# Altium schematic symbol library ABXS005S4X341-SRZ.SchLib: 1 symbol
Pins are listed as number, name and electrical type; pins without a type are passive.

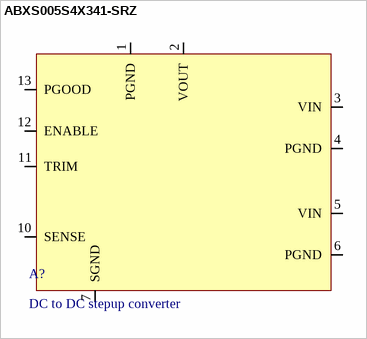
[diagram p0: symbol ABXS005S4X341-SRZ]

## ABXS005S4X341-SRZ
designator A?, comment DC to DC stepup converter
footprint ABXS005S4X341-SRZ
pins: 1 PGND (power), 2 VOUT (power), 3 VIN (power), 4 PGND (power), 5 VIN (power), 6 PGND (power), 7 SGND (power), 10 SENSE, 11 TRIM, 12 ENABLE (in), 13 PGOOD (out)